# Altium footprint library EE25 transformer.PcbLib: 1 footprints
Each footprint in its own frame and in the unit in brackets; x right, y up, seen from the top. Pads: shape width x height; smd on the part's side, far side on the other; paste and mask are expansions set on the pad; w line width, h text height; cw(c..) or ccw(c..) is an arc to the next point about the centre after c.
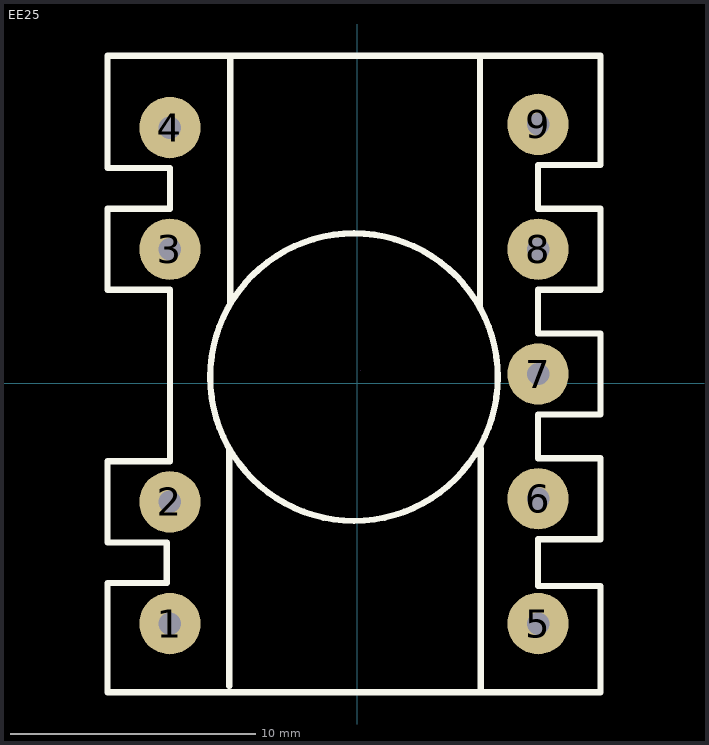
[diagram p0: the footprint, top view; thin cyan lines are the x and y axes]

## EE25 [mil]
pads (9):
  round 98.42 hole 36 paste-99999 mask+2: 1(-300,-385) 2(-300,-190) 3(-300,215) 4(-300,410) 5(290,-385) 6(290,-185) 7(290,15) 8(290,215) 9(290,415)
Top Overlay:
  circle w10: c-5,10 r230.49
  lines w10: -205,-485 -205,-105 ; -203.3,130 -203.3,525 ; 196.96,120 196.96,525 ; 198.32,-495 198.32,-105 ; -400,-495 390,-495 390,-325 290,-325 290,-250 390,-250 390,-120 290,-120 290,-50 390,-50 390,80 290,80 290,150 390,150 390,280 290,280 290,350 390,350 390,525 -400,525 -400,345 -300,345 -300,280 -400,280 -400,150 -300,150 -300,-125 -400,-125 -400,-255 -305,-255 -305,-320 -400,-320 -400,-495
Mechanical 15:
  lines w0.1: 4.99,19.99 5.01,20.01